# EAGLE library part SAMTEC-CLT-107-02-X-D (library SAMTEC-CLT-107-02-X-D)
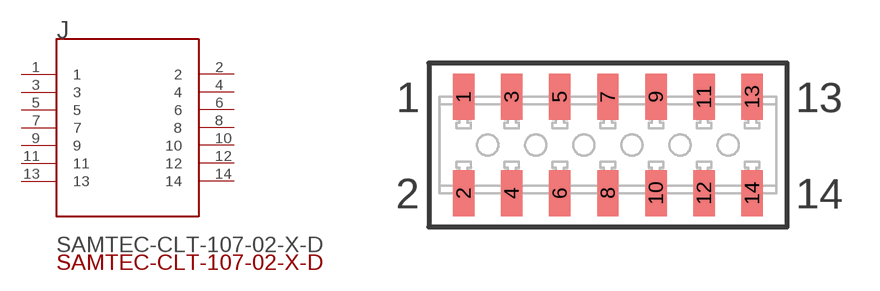
[diagram p0: symbol with the pads of SAMTEC-CLT-107-02-X-D; footprint SAMTEC-CLT-107-02-X-D]

Designator prefix J

## SAMTEC-CLT-107-02-X-DJ (Description: SOCKET, 2.0MM, SMT, 2X7POS; Series: -; Pitch Spacing: 2mm; No. of Rows: 2; No. of C; Digi-Key_Part_Number: SAM9249-ND; Digi-Key_Purchase_URL: https://www.digikey.com/product-detail/en/samtec-inc/CLT-107-02-L-D-BE/SAM9249-ND/6677986?utm_source=snapeda&utm_medium=aggregator&utm_campaign=symbol; MF: Samtec Inc.; MP: CLT-107-02-L-D; Package: None)  [SAMTEC-CLT-107-02-X-D]
1  1  pas
2  2  pas
3  3  pas
4  4  pas
5  5  pas
6  6  pas
7  7  pas
8  8  pas
9  9  pas
10  10  pas
11  11  pas
12  12  pas
13  13  pas
14  14  pas

## Footprint SAMTEC-CLT-107-02-X-D (pad centres in mm)
translated Allegro footprint
smd 0.89 x 1.91: 1 -6,2; 2 -6,-2; 3 -4,2; 4 -4,-2; 5 -2,2; 6 -2,-2; 7 0,2; 8 0,-2; 9 2,2; 10 2,-2; 11 4,2; 12 4,-2; 13 6,2; 14 6,-2